# Altium schematic symbol library SchematicLib.SchLib: 23 symbols
Pins are listed as number, name and electrical type; pins without a type are passive.

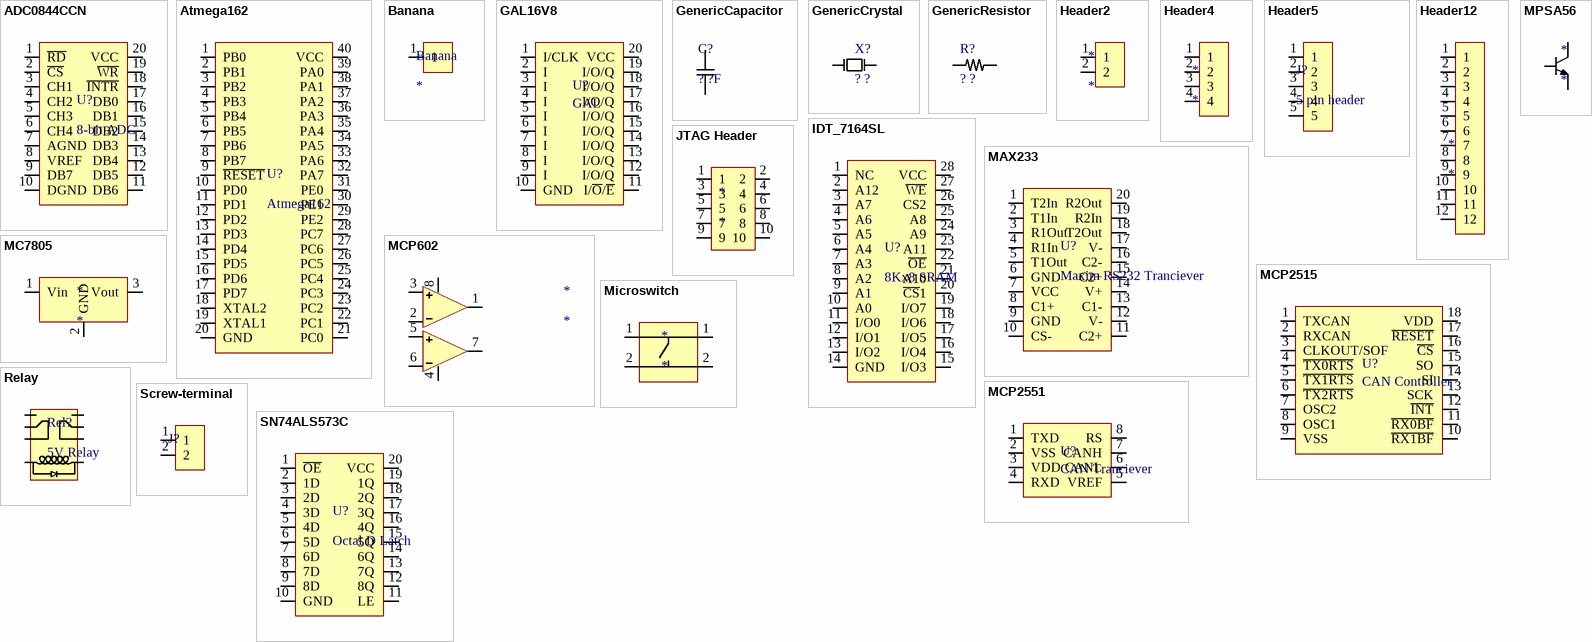
[diagram p0: symbols ADC0844CCN to SN74ALS573C]

## ADC0844CCN
designator U?, comment 8-bit ADC
footprint DIP20
pins: 1 ~{RD}, 2 ~{CS}, 3 CH1, 4 CH2, 5 CH3, 6 CH4, 7 AGND, 8 VREF, 9 DB7, 10 DGND, 11 DB6, 12 DB5, 13 DB4, 14 DB3, 15 DB2, 16 DB1, 17 DB0, 18 ~{INTR}, 19 ~{WR}, 20 VCC

## Atmega162
designator U?
footprint DIP40
pins: 1 PB0, 2 PB1, 3 PB2, 4 PB3, 5 PB4, 6 PB5, 7 PB6, 8 PB7, 9 ~{RESET}, 10 PD0, 11 PD1, 12 PD2, 13 PD3, 14 PD4, 15 PD5, 16 PD6, 17 PD7, 18 XTAL2, 19 XTAL1, 20 GND, 21 PC0, 22 PC1, 23 PC2, 24 PC3, 25 PC4, 26 PC5, 27 PC6, 28 PC7, 29 PE2, 30 PE1, 31 PE0, 32 PA7, 33 PA6, 34 PA5, 35 PA4, 36 PA3, 37 PA2, 38 PA1, 39 PA0, 40 VCC

## Banana
designator Banana
footprint Banana-plug
pins: 1

## GAL16V8
designator U?, comment GAL
footprint DIP20
pins: 1 I/CLK, 2 I, 3 I, 4 I, 5 I, 6 I, 7 I, 8 I, 9 I, 10 GND, 11 I/~{O}/~{E}, 12 I/O/Q, 13 I/O/Q, 14 I/O/Q, 15 I/O/Q, 16 I/O/Q, 17 I/O/Q, 18 I/O/Q, 19 I/O/Q, 20 VCC

## GenericCapacitor
designator C?, comment ? ?F
footprint Capacitor
pins: 1, 2

## GenericCrystal
designator X?, comment ? ?
footprint Crystal
pins: 1, 2

## GenericResistor
designator R?, comment ? ?
footprint Axial 0.6
pins: 1, 2

## Header2
designator *
footprint Header2
pins: 1, 2

## Header4
designator *
footprint Header4
pins: 1, 2, 3, 4

## Header5
designator J?, comment 5 pin header
footprint Header5
pins: 1, 2, 3, 4, 5

## Header12
designator *
footprint Header12
pins: 1, 2, 3, 4, 5, 6, 7, 8, 9, 10, 11, 12

## IDT_7164SL
designator U?, comment 8Kx8 SRAM
footprint DIP28
pins: 1 NC, 2 A12, 3 A7, 4 A6, 5 A5, 6 A4, 7 A3, 8 A2, 9 A1, 10 A0, 11 I/O0, 12 I/O1, 13 I/O2, 14 GND, 15 I/O3, 16 I/O4, 17 I/O5, 18 I/O6, 19 I/O7, 20 ~{CS}1, 21 A10, 22 ~{OE}, 23 A11, 24 A9, 25 A8, 26 CS2, 27 ~{WE}, 28 VCC

## JTAG Header
designator *
footprint Header5x2
pins: 1, 2, 3, 4, 5, 6, 7, 8, 9, 10

## MAX233
designator U?, comment Maxim RS232 Tranciever
footprint DIP20
pins: 1 T2In, 2 T1In, 3 R1Out, 4 R1In, 5 T1Out, 6 GND, 7 VCC, 8 C1+, 9 GND, 10 CS-, 11 C2+, 12 V-, 13 C1-, 14 V+, 15 C2+, 16 C2-, 17 V-, 18 T2Out, 19 R2In, 20 R2Out

## MC7805
designator *
footprint SIP3
pins: 1 Vin, 2 GND, 3 Vout

## MCP602
designator *
footprint DIP8
pins: 1 VOUTA, 2 VINA-, 3 VINA+, 4 Vss, 5 VINB+, 6 VINB-, 7 VOUTB, 8 Vdd

## MCP2515
designator U?, comment CAN Controller
footprint DIP18
pins: 1 TXCAN, 2 RXCAN, 3 CLKOUT/SOF, 4 ~{TX0RTS}, 5 ~{TX1RTS}, 6 ~{TX2RTS}, 7 OSC2, 8 OSC1, 9 VSS, 10 ~{RX1BF}, 11 ~{RX0BF}, 12 ~{INT}, 13 SCK, 14 SI, 15 SO, 16 ~{CS}, 17 ~{RESET}, 18 VDD

## MCP2551
designator U?, comment CAN Tranciever
footprint DIP8
pins: 1 TXD, 2 VSS, 3 VDD, 4 RXD, 5 VREF, 6 CANL, 7 CANH, 8 RS

## Microswitch
designator *
footprint Microswitch
pins: 1, 1, 2, 2

## MPSA56
designator *
footprint SIP3
pins: 1, 2, 3

## Relay
designator Rel?, comment 5V Relay
footprint DIP16-8
pins: 1, 2, 3, 4, 5, 6, 7, 8

## Screw-terminal
designator J?  (value not drawn)
footprint Screw connector
pins: 1, 2

## SN74ALS573C
designator U?, comment Octal D Latch
footprint DIP20
pins: 1 ~{OE}, 2 1D, 3 2D, 4 3D, 5 4D, 6 5D, 7 6D, 8 7D, 9 8D, 10 GND, 11 LE, 12 8Q, 13 7Q, 14 6Q, 15 5Q, 16 4Q, 17 3Q, 18 2Q, 19 1Q, 20 VCC